# Altium integrated library Bourns.IntLib: 2 symbols
Pins are listed as number, name and electrical type; pins without a type are passive.

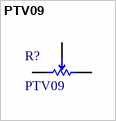
[diagram p0: symbol PTV09]

## PTV09
designator R?
PTV09 Series - 9 mm Potentiometer
footprint PTV09A-1x30
footprint PTV09A-1x25
footprint PTV09A-1x20
footprint PTV09A-1x15
footprint PTV09A-2x30
footprint PTV09A-2x25
footprint PTV09A-2x20
footprint PTV09A-2x15
pins: 1, 2, 3


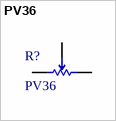
[diagram p1: symbol PV36]

## PV36
designator R?
Trimmer Potentiometers - Lead Sealed Type Multiturn PV36 Series
footprint PV36W
footprint PV36X
footprint PV36Y
footprint PV36Z
pins: 1, 2, 3